# Altium footprint library 电磁放大器模块.PcbLib: 10 footprints
Each footprint in its own frame and in the unit in brackets; x right, y up, seen from the top. Pads: shape width x height; smd on the part's side, far side on the other; paste and mask are expansions set on the pad; w line width, h text height; cw(c..) or ccw(c..) is an arc to the next point about the centre after c.
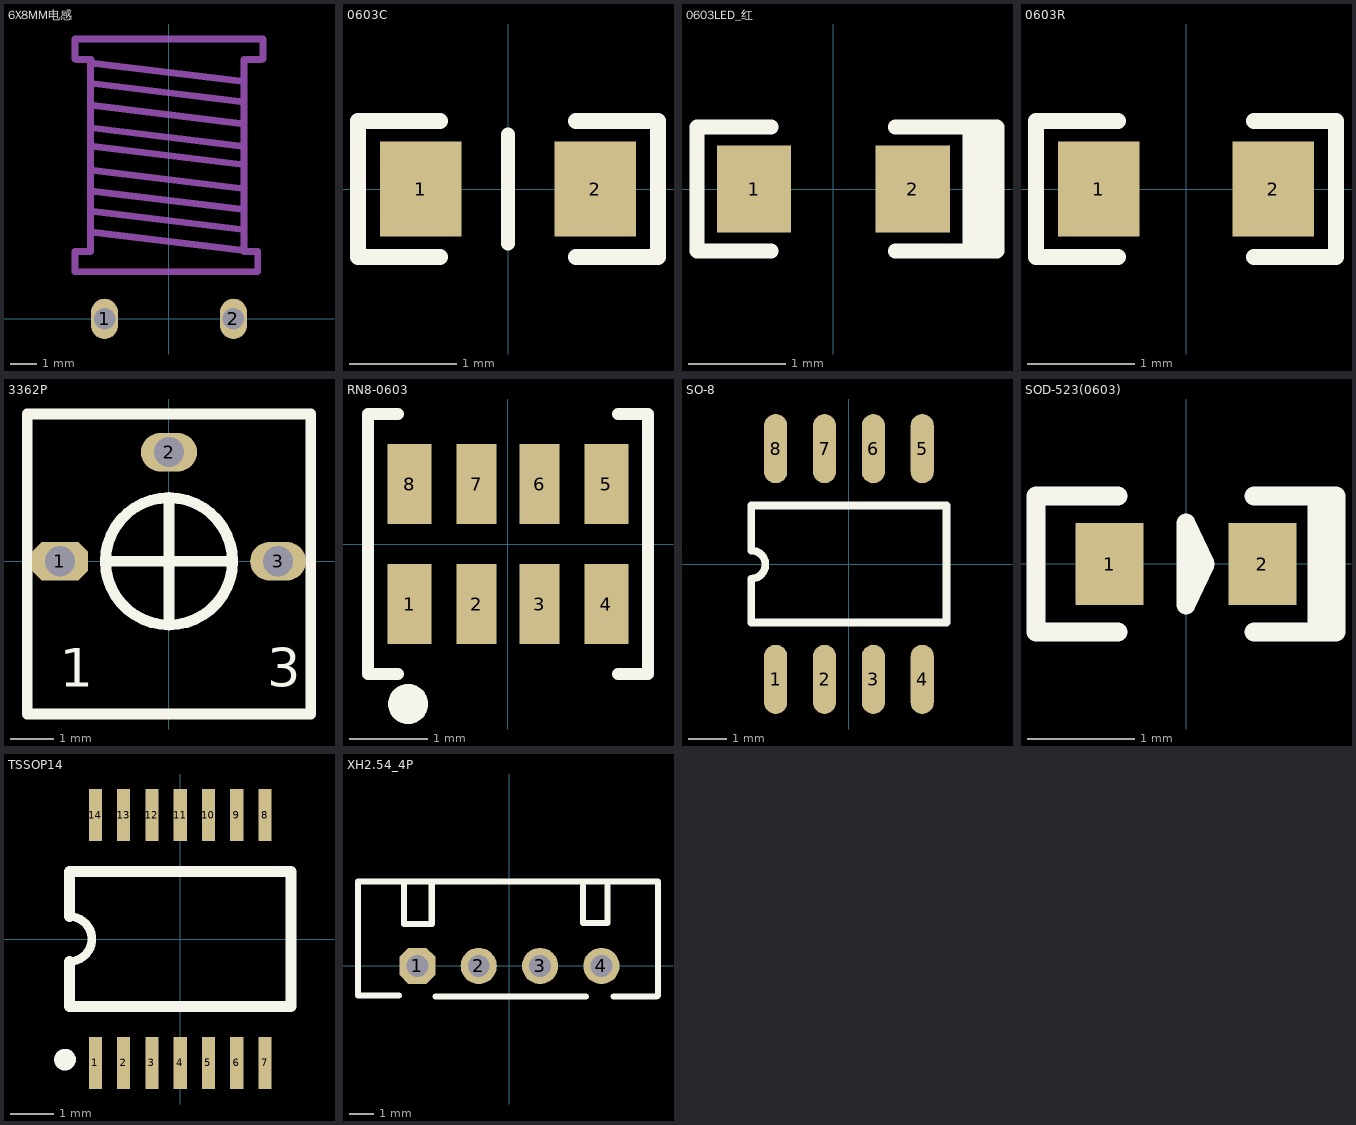
[diagram p0: the footprints below, top view; thin cyan lines are the x and y axes]

## 6X8MM电感 [mm]
pads (2):
  oval 1x1.5 hole 0.8: 1(-2.4,0) 2(2.4,0)
Bottom Overlay:
  lines w0.254: -1.27,1.27 -1.27,1.905 ; 1.27,1.27 1.27,1.905 ; -2.413,1.905 -2.413,2.54 -1.524,2.54 -1.524,5.207 -2.413,5.207 -2.413,5.969 2.413,5.969 2.413,5.207 1.524,5.207 1.524,2.54 2.413,2.54 2.413,1.905 -2.413,1.905
Mechanical 3:
  lines w0.254: -3.5,1.75 -3.5,2.5 ; -3.5,9.663 -3.5,10.413 3.5,10.413 3.5,9.663 ; -3.429,1.75 3.302,1.75 3.302,2.5 2.794,2.5 ; -3.429,2.5 -2.921,2.5 -2.921,9.525 2.787,8.829 ; -3.429,9.652 -2.9,9.652 ; -2.921,7.112 2.787,6.416 ; -2.921,8.763 2.787,8.067 ; -2.914,3.236 2.794,2.54 2.794,9.652 ; -2.914,4.76 2.794,4.064 ; -2.787,3.998 2.796,3.317 ; -2.787,5.522 2.796,4.841 ; -2.787,6.411 2.796,5.73 ; -2.787,7.935 2.796,7.254 ; 2.9,9.652 3.429,9.652 ; 2.794,9.652 2.794,9.652
3D body: height 7.49, standoff 0.51, extent -3.572,1.6 3.4,3.6
3D body: height 6.79, standoff 1.21, extent -2.878,2 2.7,10
3D body: height 7.49, standoff 0.51, extent -3.572,8.5 3.4,10.5
3D body: height 4, standoff -1, extent -2.749,-0.299 -2.251,0.2
3D body: height 4, standoff 3.5, extent -2.75,0.2 -2.25,1.6
3D body: height 4, standoff 3.5, extent 2.25,0.2 2.75,1.6
3D body: height 4, standoff -1, extent 2.251,-0.299 2.749,0.2

## 0603C [mil]
pads (2):
  rect 30x35 smd: 1(-32,0) 2(32,0)
Top Overlay:
  lines w5: 0,-20 0,20
  lines w5.91: -25,-25 -55,-25 -55,25 -25,25 ; 25,-25 55,-25 55,25 25,25
3D body: height 21.65, standoff 0, extent -31,-15.75 32,15.75

## 0603LED_红 [mil]
pads (2):
  rect 30x35 smd: 1(-32,0) 2(32,0)
Top Overlay:
  lines w5.91: -25,-25 -55,-25 -55,25 -25,25 ; 25,25 66,25 66,-25 25,-25 55,-25 55,25 ; 61,-25 61,25
  lines w10: 58,-20 58,17
3D body: height 15, standoff 0, extent 26.15,-20.93 42.88,20.93
3D body: height 15, standoff 0, extent -36.41,-21.04 -19.68,21.04
3D body: height 15, standoff 0, extent -19.75,-21 26.31,21
3D body: height 18, standoff 0, extent -11.85,-18.28 19.4,15.81

## 0603R [mil]
pads (2):
  rect 30x35 smd: 1(-32,0) 2(32,0)
Top Overlay:
  lines w5.91: -25,-25 -55,-25 -55,25 -25,25 ; 25,-25 55,-25 55,25 25,25
3D body: height 17.72, standoff 0, extent -31.5,-15.75 31.5,15.75

## 3362P [mm]
pads (3):
  oct 1.3x0.9 hole 0.7: 1(-2.54,0)
  oval 1.3x0.9 hole 0.7: 2(0,2.54) 3(2.54,0)
Top Overlay:
  circle w0.254: c0,0 r1.481
  lines w0.254: -1.397,0 1.397,0 ; 0,-1.397 0,1.397 ; -3.3,-3.556 -3.3,3.429 3.3,3.429 3.3,-3.556 -3.3,-3.556
  text "1" at -2.54,-2.921 h0.89
  text "3" at 2.286,-2.921 h0.89
3D body: height 3.2, standoff 0, extent -1.016,-1.016 0.976,0.98
3D body: height 3, standoff 0, extent -3.275,-3.55 3.275,3.425

## RN8-0603 [mil]
pads (8):
  rect 22x40 smd: 1(-49.24,-30) 4(49.24,-30) 5(49.24,30) 8(-49.24,30)
  rect 20x40 smd: 2(-15.75,-30) 3(15.75,-30) 6(15.75,30) 7(-15.75,30)
Top Overlay:
  circle w10: c-50,-80 r5
  lines w6: -55,-65 -70,-65 -70,65 -55,65 ; 55,-65 70,-65 70,65 55,65

## SO-8 [mm]
pads (8):
  oval 0.6x1.8 smd: 1(-1.905,-3) 2(-0.635,-3) 3(0.635,-3) 4(1.905,-3) 5(1.905,3) 6(0.635,3) 7(-0.635,3) 8(-1.905,3)
Top Overlay:
  lines w0.2: -2.54,-1.524 -2.54,-0.41 ; -2.54,-0.381 ccw(c-2.54,-0.014) -2.54,0.352 ; -2.54,0.381 -2.54,1.524
  lines w0.203: -2.54,-1.524 2.54,-1.524 2.54,1.524 -2.54,1.524
3D body: height 1.7, standoff 0, extent -2.438,-2.921 2.462,3.079

## SOD-523(0603) [mil]
pads (2):
  rect 25x30 smd: 1(-28,0) 2(28,0)
Top Overlay:
  lines w7: -25,-25 -55,-25 -55,25 -25,25 ; 25,-25 55,-25 55,25 25,25 ; 48,-25 48,25 ; 0,-15 0,15 7,0 0,-15
3D body: height 25.59, standoff 0, extent -30.5,-16 32.5,15.5

## TSSOP14 [mm]
pads (14):
  rect 0.3x1.2 smd: 1(-1.95,-2.85) 2(-1.3,-2.85) 3(-0.65,-2.85) 4(0,-2.85) 5(0.65,-2.85) 6(1.3,-2.85) 7(1.95,-2.85) 8(1.95,2.85) 9(1.3,2.85) 10(0.65,2.85) 11(0,2.85) 12(-0.65,2.85) 13(-1.3,2.85) 14(-1.95,2.85)
Top Overlay:
  circle w0.25: c-2.65,-2.775 r0.125
  lines w0.2: -2.55,-0.517 ccw(c-2.55,0) -2.55,0.517
  lines w0.254: -2.55,-0.517 -2.55,-1.55 2.55,-1.55 2.55,1.55 -2.55,1.55 -2.55,0.517
3D body: height 1, standoff 0, extent -3,-2 3,2

## XH2.54_4P [mm]
pads (4):
  oct 1.5x1.5 hole 0.9: 1(-3.81,0)
  round 1.5 hole 0.9: 2(-1.27,0) 3(1.27,0) 4(3.81,0)
Top Overlay:
  lines w0.254: -6.27,-0.762 -6.27,3.5 6.152,3.5 6.152,-1.214 6.096,-1.27 4.318,-1.27 ; -6.27,-0.635 -6.27,-1.23 -4.572,-1.23 ; -4.358,1.731 -4.358,3.429 ; -4.318,1.738 -3.215,1.738 -3.215,3.429 ; -3.048,-1.27 3.175,-1.27 ; 3.048,3.302 3.048,1.778 4.064,1.778 4.064,3.302